# Altium footprint library Harpis.PcbLib: 6 footprints
Each footprint in its own frame and in the unit in brackets; x right, y up, seen from the top. Pads: shape width x height; smd on the part's side, far side on the other; paste and mask are expansions set on the pad; w line width, h text height; cw(c..) or ccw(c..) is an arc to the next point about the centre after c.
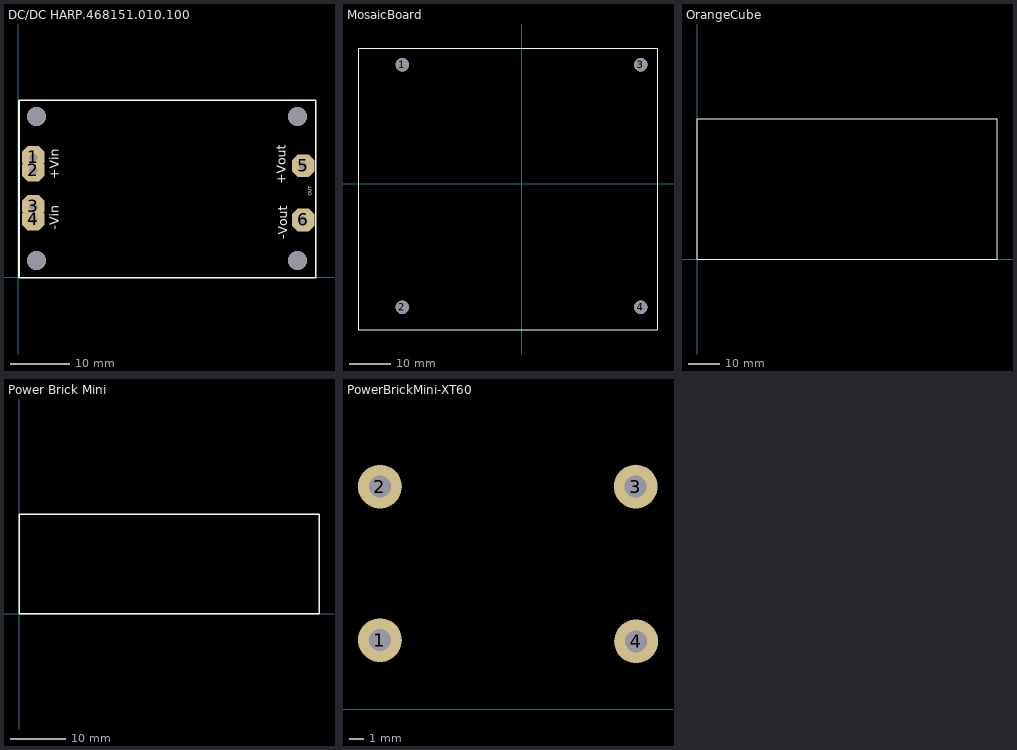
[diagram p0: the footprints below, top view; thin cyan lines are the x and y axes]

## DC/DC HARP.468151.010.100 [mil]
pads (6):
  oct 150x150 / inner round 138.58 / far side oct 150x150 hole 55: 1(100,793.58) 2(100,708.58) 3(100,468.58) 4(100,383.58) 5(1890,738.58) 6(1890,378.58)
via 122.32,1064.45 diameter 125.98 hole 125.98
via 122.32,110.9 diameter 125.98 hole 125.98
via 1852.64,110.9 diameter 125.98 hole 125.98
via 1852.64,1064.45 diameter 125.98 hole 125.98
Top Overlay:
  lines w10: 5,-6.42 5,1174.68 1973.5,1174.68 1973.5,-6.42 5,-6.42
  text "OUT" at 1958.61,538.54 h37.2
  text "+Vin" at 270,650 h60
  text "-Vin" at 270,315 h60
  text "+Vout" at 1775,615 h60
  text "-Vout" at 1785,250 h60
Mechanical 3:
  region: 136,506.58 69.07,506.58 69.07,536.11 136,536.11
3D body: height 590.55, standoff 0, extent 5,-10 1970,1170

## MosaicBoard [mm]
pads (4):
  round 3.2 hole 3.2: 1(-28.5,28.5) 2(-28.5,-29.5) 3(28.5,28.5) 4(28.5,-29.5)
Top Overlay:
  lines w0.254: 32.5,-34.925 -39.116,-34.925 -39.116,32.512 32.512,32.512 ; 32.639,-34.925 32.639,32.5
3D body "Mosaic-G5-1.0.step": height 14.86, standoff 0.03, extent -39.049,-34.956 32.488,32.345

## OrangeCube [mm]
Top Overlay:
  lines w0.254: 0,0 94.234,0 94.361,-0.127 94.361,0.127 94.361,44.196 0,44.196 0,0
3D body "CUBE Orange ADS-B v2.step": height 80.94, standoff 0, extent -0.008,-0.129 94.242,44.071

## Power Brick Mini [mm]
Top Overlay:
  lines w0.254: 0,0 53.975,0 53.975,17.907 0,17.907 0,0
3D body "Power Brick Mini.STEP": height 11.68, standoff -1.68, extent 0,0 54.07,17.919

## PowerBrickMini-XT60 [mm]
pads (4):
  round 3 hole 1.5: 1(3.429,4.74) 2(3.429,15.24) 3(20.929,15.24) 4(20.955,4.656)
3D body "Power Brick Mini-XT60-Power Brick Mini.step": height 9.68, standoff -1.92, extent 1.366,1.524 26.066,19.443

## SineTelemetry [mm]
3D body "Link-B7.STEP": height 9.67, standoff -0.08, extent -0.25,-0.27 44.45,69.104